# Altium integrated library WCAP-ATG5_8X11.5.IntLib: 1 symbol
Pins are listed as number, name and electrical type; pins without a type are passive.

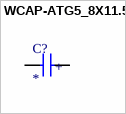
[diagram p0: symbol WCAP-ATG5_8X11.5]

## WCAP-ATG5_8X11.5
designator C?
MF: {'manufacturer': u'W\xfcrth Elektronik'}; MP: 860020574012; Package: None; Price: None; Value: *; Availability: Unavailable
footprint WCAP-ATG5_8X11.5(DXL)
pins: 1 POS, 2 NEG
text: +